# Altium schematic symbol library NEO-M8N.SchLib: 1 symbol
Pins are listed as number, name and electrical type; pins without a type are passive.

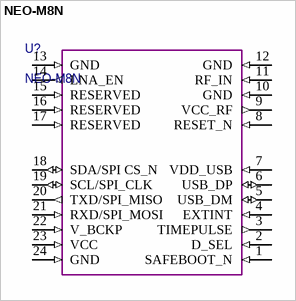
[diagram p0: symbol NEO-M8N]

## NEO-M8N
designator U?
pins: 1 SAFEBOOT_N (in), 2 D_SEL (in), 3 TIMEPULSE (out), 4 EXTINT (in), 5 USB_DM (io), 6 USB_DP (io), 7 VDD_USB (in), 8 RESET_N (in), 9 VCC_RF (out), 10 GND (in), 11 RF_IN (in), 12 GND (in), 13 GND (in), 14 LNA_EN (out), 15 RESERVED (in), 16 RESERVED (in), 17 RESERVED (in), 18 SDA/SPI CS_N (io), 19 SCL/SPI_CLK (io), 20 TXD/SPI_MISO (out), 21 RXD/SPI_MOSI (in), 22 V_BCKP (in), 23 VCC (in), 24 GND (in)